# Altium footprint library wire_and_cable_pads.PcbLib: 4 footprints
Each footprint in its own frame and in the unit in brackets; x right, y up, seen from the top. Pads: shape width x height; smd on the part's side, far side on the other; paste and mask are expansions set on the pad; w line width, h text height; cw(c..) or ccw(c..) is an arc to the next point about the centre after c.
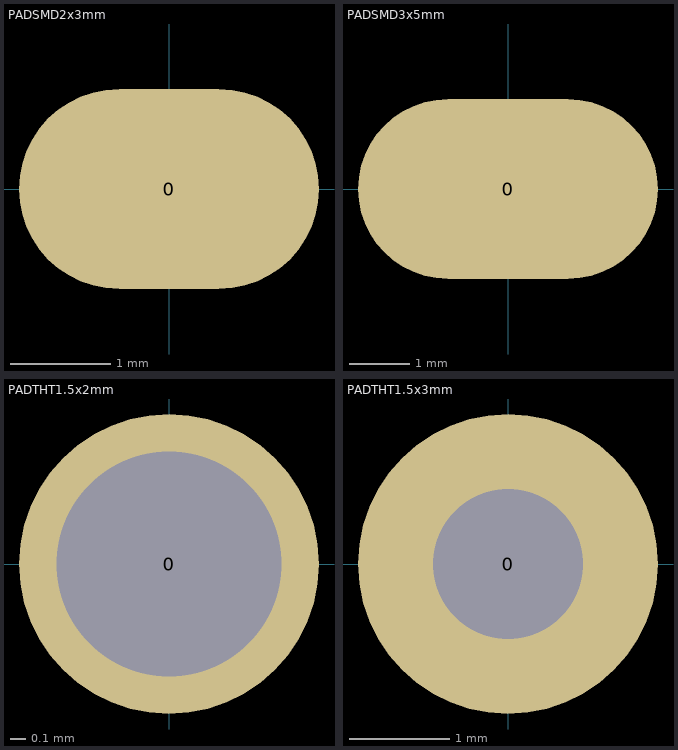
[diagram p0: the footprints below, top view; thin cyan lines are the x and y axes]

## PADSMD2x3mm [mm]
pads (1):
  oval 3x2 smd: 0(0,0)

## PADSMD3x5mm [mm]
pads (1):
  oval 5x3 smd: 0(0,0)

## PADTHT1.5x2mm [mm]
pads (1):
  round 2 hole 1.5: 0(0,0)

## PADTHT1.5x3mm [mm]
pads (1):
  round 3 hole 1.5: 0(0,0)